# EAGLE library part 61003221121 (library Board-to-Board (rev18a))
WR-PHD 2.54mm Dual SMT Pin Header, 32 Pins =>Code : Con_BTB_PHD_2.54_2_61003221121 <http://katalog.we-online.de/media/images/eican/Con_BTB_PHD_2.54_2_6100xx21121_pf2.jpg> Details see: http://katalog.we-online.de/en/em/610_0xx_211_21 Created 2014-05-29, Karrer Zheng 2014 (C) Würth Elektronik
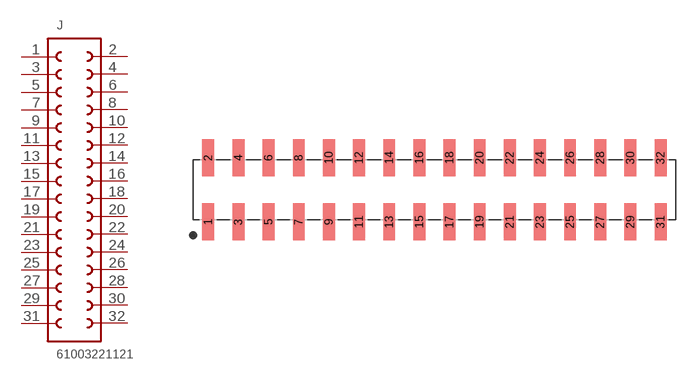
[diagram p85: symbol with the pads of 61003221121; footprint 61003221121]

Designator prefix J

## 61003221121  [61003221121]
1  1  pas
2  32  pas
3  2  pas
4  31  pas
5  3  pas
6  30  pas
7  4  pas
8  29  pas
9  5  pas
10  28  pas
11  6  pas
12  27  pas
13  7  pas
14  26  pas
15  8  pas
16  25  pas
17  9  pas
18  24  pas
19  10  pas
20  23  pas
21  11  pas
22  22  pas
23  12  pas
24  21  pas
25  13  pas
26  20  pas
27  14  pas
28  19  pas
29  15  pas
30  18  pas
31  16  pas
32  17  pas

## Footprint 61003221121 (pad centres in mm)
WR-PHD 2.54mm Dual SMT Pin Header, 32 Pins
smd 1 x 3.1: 1 -19.05,-2.7; 2 -19.05,2.7; 3 -16.51,-2.7; 4 -16.51,2.7; 5 -13.97,-2.7; 6 -13.97,2.7; 7 -11.43,-2.7; 8 -11.43,2.7; 9 -8.89,-2.7; 10 -8.89,2.7; 11 -6.35,-2.7; 12 -6.35,2.7; 13 -3.81,-2.7; 14 -3.81,2.7; 15 -1.27,-2.7; 16 -1.27,2.7; 17 1.27,-2.7; 18 1.27,2.7; 19 3.81,-2.7; 20 3.81,2.7; 21 6.35,-2.7; 22 6.35,2.7; 23 8.89,-2.7; 24 8.89,2.7; 25 11.43,-2.7; 26 11.43,2.7; 27 13.97,-2.7; 28 13.97,2.7; 29 16.51,-2.7; 30 16.51,2.7; 31 19.05,-2.7; 32 19.05,2.7